# Altium integrated library G3VM-61VY3.IntLib: 1 symbol
Pins are listed as number, name and electrical type; pins without a type are passive.

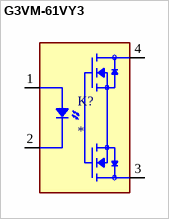
[diagram p0: symbol G3VM-61VY3]

## G3VM-61VY3
designator K?
MP: G3VM-61VY3; Value: *; Price: None; Package: None; Availability: Unavailable
footprint RELAY_G3VM-61VY3
pins: 1 A, 2 C, 3 D2, 4 D1